# EAGLE library part ES_FV-1_REVERB_V2 (library Electrosmith_Boards)
Designed for ES_FV-1_STOCK_FX_Rev3
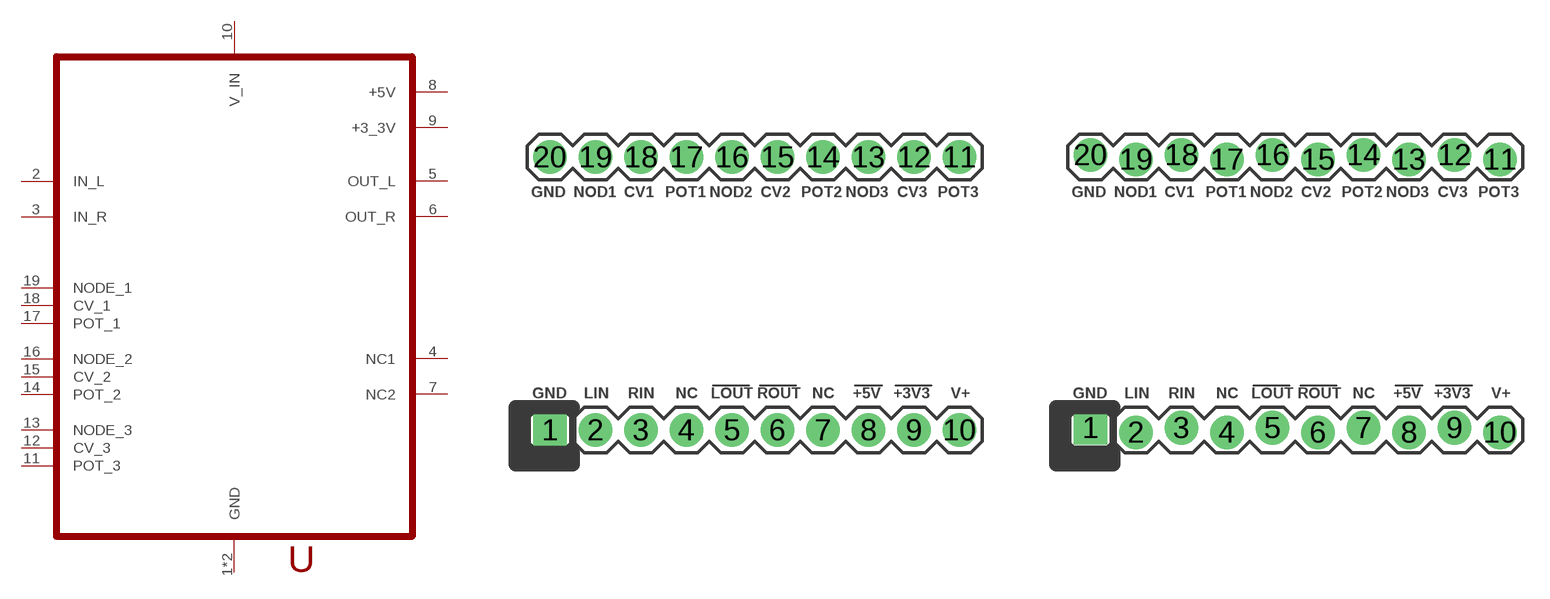
[diagram p5: symbol with the pads of ES_FV-1_STOCK_FX_V2; footprints ES_FV-1_STOCK_FX_V2, ES_FV-1_STOCK_FX_V2_LOCK]

Designator prefix U

## ES_FV-1_REVERB_V2  [ES_FV-1_STOCK_FX_V2]
1  GND
2  IN_L
3  IN_R
4  NC1
5  OUT_L
6  OUT_R
7  NC2
8  +5V
9  +3_3V
10  V_IN
11  POT_3
12  CV_3
13  NODE_3
14  POT_2
15  CV_2
16  NODE_2
17  POT_1
18  CV_1
19  NODE_1
20  GND

## ES_FV-1_REVERB_V2_LOCK  [ES_FV-1_STOCK_FX_V2_LOCK]
Pads as for ES_FV-1_STOCK_FX_V2

## Footprint ES_FV-1_STOCK_FX_V2 (pad centres in mm)
drill 1.016 pad 1.88 square: 1 1.395,1.395
drill 1.016 pad 1.88: 2 3.935,1.395; 3 6.475,1.395; 4 9.015,1.395; 5 11.555,1.395; 6 14.095,1.395; 7 16.635,1.395; 8 19.175,1.395; 9 21.715,1.395; 10 24.255,1.395; 11 24.255,16.635; 12 21.715,16.635; 13 19.175,16.635; 14 16.635,16.635; 15 14.095,16.635; 16 11.555,16.635; 17 9.015,16.635; 18 6.475,16.635; 19 3.935,16.635; 20 1.395,16.635

## Footprint ES_FV-1_STOCK_FX_V2_LOCK (pad centres in mm)
drill 1.016 pad 1.88 square: 1 1.395,1.522
drill 1.016 pad 1.88: 2 3.935,1.268; 3 6.475,1.522; 4 9.015,1.268; 5 11.555,1.522; 6 14.095,1.268; 7 16.635,1.522; 8 19.175,1.268; 9 21.715,1.522; 10 24.255,1.268; 11 24.255,16.508; 12 21.715,16.762; 13 19.175,16.508; 14 16.635,16.762; 15 14.095,16.508; 16 11.555,16.762; 17 9.015,16.508; 18 6.475,16.762; 19 3.935,16.508; 20 1.395,16.762